# Altium footprint library UVM AERO BSPD2.PcbLib: 51 footprints (part 2 of 4)
Each footprint in its own frame and in the unit in brackets; x right, y up, seen from the top. Pads: shape width x height; smd on the part's side, far side on the other; paste and mask are expansions set on the pad; w line width, h text height; cw(c..) or ccw(c..) is an arc to the next point about the centre after c.
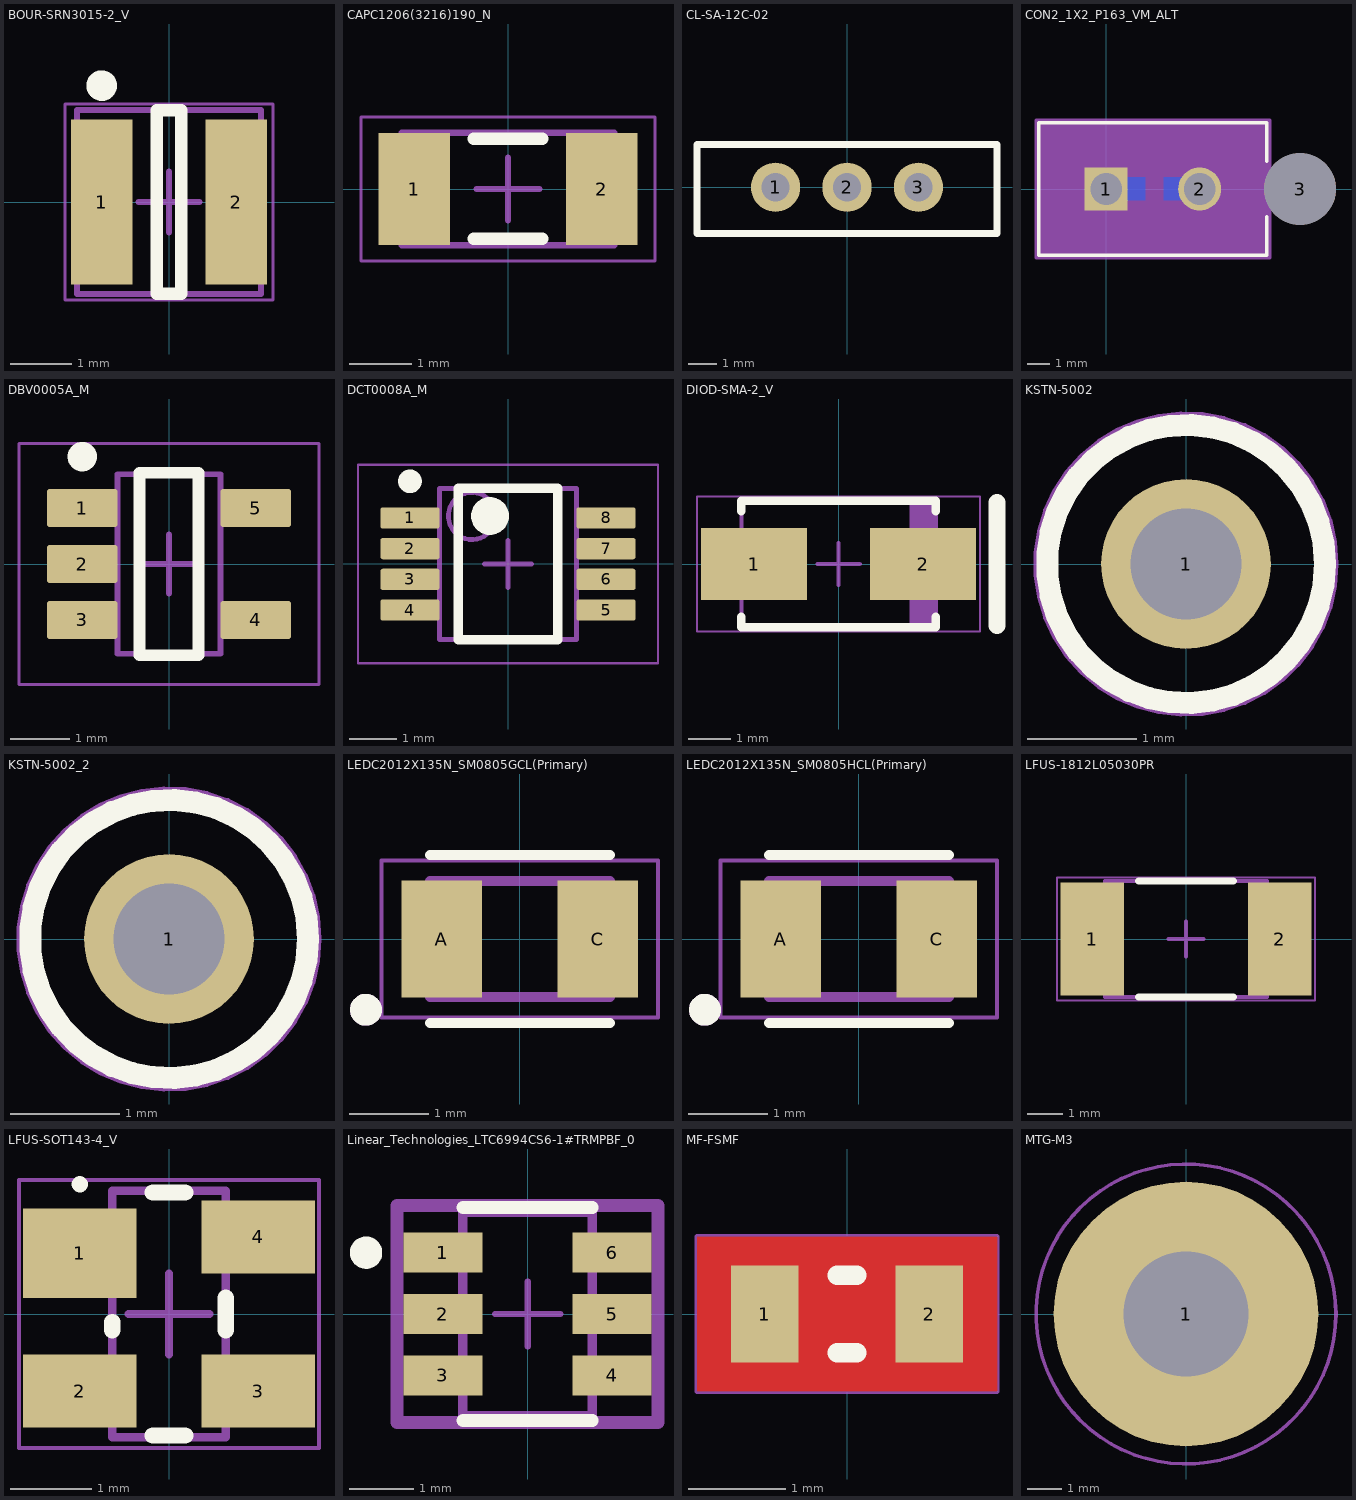
[diagram p1: the footprints below, top view; thin cyan lines are the x and y axes]

## BOUR-SRN3015-2_V [mm] "SMD, 2-Leads, Body 3x3mm, Height 1.5mm"
height 1.5
pads (2):
  rect 1x2.7 smd: 1(-1.1,0) 2(1.1,0)
Top Overlay:
  circle w0.25: c-1.1,1.9 r0.125
  lines w0.2: -0.2,-1.5 0.2,-1.5 0.2,1.5 -0.2,1.5 -0.2,-1.5
Mechanical 13:
  lines w0.1: -1.5,-1.5 1.5,-1.5 1.5,1.5 -1.5,1.5 -1.5,-1.5
Mechanical 15:
  lines w0.05: -1.7,-1.6 1.7,-1.6 1.7,1.6 -1.7,1.6 -1.7,-1.6
  lines w0.1: -0.5,0 0.5,0 ; 0,-0.5 0,0.5
3D body "srn3015.stp": height 1.5, standoff 0, extent -1.5,-1.5 1.5,1.5

## CAPC1206(3216)190_N [mm] "Chip Capacitor, Body 3.2x1.6mm, Height 1.9mm, IPC Medium Density"
height 1.9
pads (2):
  rect 1.15x1.8 smd: 1(-1.5,0) 2(1.5,0)
Top Overlay:
  lines w0.2: -0.55,-0.8 0.55,-0.8 ; -0.55,0.8 0.55,0.8
Mechanical 13:
  lines w0.1: -1.7,-0.9 1.7,-0.9 1.7,0.9 -1.7,0.9 -1.7,-0.9
Mechanical 15:
  lines w0.05: -2.35,-1.15 2.35,-1.15 2.35,1.15 -2.35,1.15 -2.35,-1.15
  lines w0.1: -0.5,0 0.5,0 ; 0,-0.5 0,0.5
3D body: height 1.9, standoff 0, extent 1.2,-0.9 1.7,0.9
3D body: height 1.9, standoff 0, extent -1.2,-0.9 1.2,0.9
3D body: height 1.9, standoff 0, extent -1.7,-0.9 -1.2,0.9

## CL-SA-12C-02 [mm]
pads (3):
  round 1.75 hole 1 paste-2.54: 1(-2.54,0) 2(0,0) 3(2.54,0)
Top Overlay:
  lines w0.254: -5.334,-1.651 5.334,-1.651 5.334,1.524 -5.334,1.524 -5.334,-1.651
3D body "CL-SA-12C-02.stp": height 6.4, standoff -5, extent -5,-1.27 5,1.27

## CON2_1X2_P163_VM_ALT [mil]
pads (3):
  rect 75x75 hole 55: 1(0,0)
  round 75 hole 55: 2(162.99,0)
  round 125 hole 125 unplated: 3(338,0)
Bottom Layer:
  region: 68.63,21 33.63,21 33.63,-20 68.63,-20
  region: 142.63,21 99.63,21 99.63,-20 142.63,-20
Top Overlay:
  lines w6: 280,-48.49 280,-115 -117,-115 -117,115 280,115 280,48.49
Bottom Solder:
  region: 162.99,25 33.63,25 33.63,-24 162.99,-24
Top Courtyard:
  region: 285,120 -122,120 -122,-120 285,-120
Top Component Outline:
  lines w6: -122,-120 -122,120 285,120 285,-120 -122,-120
3D body "c-1-770872-0-h-3d.stp": height 566.5, standoff -168, extent -159.49,-139.99 379.51,110.01
3D body: height 10, standoff 0, extent 0,0 10,10

## DBV0005A_M [mm] "SOT23, 5-Leads, Body 3.05x1.75mm, Pitch 0.95mm, IPC Low Density"
height 1.45
pads (5):
  rrect15% 1.2x0.65 smd: 1(-1.475,0.95) 2(-1.475,0) 3(-1.475,-0.95) 4(1.475,-0.95) 5(1.475,0.95)
Top Overlay:
  circle w0.25: c-1.475,1.825 r0.125
  lines w0.2: -0.5,-1.55 -0.5,1.55 0.5,1.55 0.5,-1.55 -0.5,-1.55
Mechanical 1:
  text ".Designator" at -0.635,-0.127 h0.4
Mechanical 13:
  lines w0.1: -0.875,-1.525 -0.875,1.525 0.875,1.525 0.875,-1.525 -0.875,-1.525
Mechanical 15:
  lines w0.05: -2.55,-2.05 -2.55,2.05 2.55,2.05 2.55,-2.05 -2.55,-2.05
  lines w0.1: -0.5,0 0.5,0 ; 0,-0.5 0,0.5
3D body "DBV0005AaksMF05A.stp": height 1.08, standoff -0.01, extent -1.422,-1.461 1.422,1.46

## DCT0008A_M [mm] "SOP, 8-Leads, Body 2.9x3.2mm, Pitch 0.65mm, IPC Low Density"
height 1.3
pads (8):
  rrect22% 1.25x0.45 smd: 1(-2.075,0.975) 2(-2.075,0.325) 3(-2.075,-0.325) 4(-2.075,-0.975) 5(2.075,-0.975) 6(2.075,-0.325) 7(2.075,0.325) 8(2.075,0.975)
Top Overlay:
  circle w0.25: c-2.075,1.75 r0.125
  circle w0.4: c-0.381,1.016 r0.2
  lines w0.2: -1.05,-1.6 1.05,-1.6 1.05,1.6 -1.05,1.6 -1.05,-1.6
Mechanical 1:
  text ".Designator" at -1.143,-0.254 h0.6
Mechanical 13:
  circle w0.1: c-0.762,1.016 r0.5
  lines w0.1: -1.45,-1.6 -1.45,1.6 1.45,1.6 1.45,-1.6 -1.45,-1.6
Mechanical 15:
  lines w0.05: -3.175,-2.1 -3.175,2.1 3.175,2.1 3.175,-2.1 -3.175,-2.1
  lines w0.1: -0.5,0 0.5,0 ; 0,-0.5 0,0.5
3D body "DCT0008A.stp": height 1.3, standoff 0, extent -2.011,-1.475 2.011,1.475

## DIOD-SMA-2_V [mm] "Molded Diode, 2-Leads, Body 4.6x2.92mm"
height 2.4
pads (2):
  rect 2.5x1.7 smd: 1(-2,0) 2(2,0)
Top Overlay:
  lines w0.2: -2.3,-1.25 -2.3,-1.5 2.3,-1.5 2.3,-1.25 ; -2.3,1.25 -2.3,1.5 2.3,1.5 2.3,1.25
  lines w0.4: 3.75,-1.46 3.75,1.46
Mechanical 13:
  rectangle: 1.681,-1.46 2.3,1.46
  lines w0.1: -2.3,-1.46 -2.3,1.46 2.3,1.46 2.3,-1.46 -2.3,-1.46
Mechanical 15:
  lines w0.05: -3.35,-1.6 3.35,-1.6 3.35,1.6 -3.35,1.6 -3.35,-1.6
  lines w0.1: -0.5,0 0.5,0 ; 0,-0.5 0,0.5
3D body "DIOM4326X24L.step": height 2.4, standoff 0, extent -2.52,-1.46 2.52,1.46

## KSTN-5002 [mm] "Test Point, Through Hole, Dia 2.54mm"
height 4.57
pads (1):
  round 1.55 hole 1.016: 1(0,0)
Top Overlay:
  circle w0.2: c0,0 r1.27
Mechanical 13:
  circle w0.1: c0,0 r1.27
Mechanical 15:
  circle w0.05: c0,0 r1.37
  lines w0.1: -0.5,0 0.5,0 ; 0,-0.5 0,0.5
3D body "Keystone_5002.stp": height 4.62, standoff -3, extent -1.254,-1.247 1.246,1.253

## KSTN-5002_2 [mm]
pads (1):
  round 1.55 hole 1.016: 1(0,0)
Top Overlay:
  circle w0.2: c0,0 r1.27
Mechanical 13:
  circle w0.1: c0,0 r1.27
Mechanical 15:
  circle w0.05: c0,0 r1.37
  lines w0.1: -0.5,0 0.5,0 ; 0,-0.5 0,0.5
3D body "Keystone_5002.stp": height 4.62, standoff -3, extent -1.254,-1.247 1.246,1.253

## LEDC2012X135N_SM0805GCL(Primary) [mm]
pads (2):
  rect 1.01x1.47 smd: A(-0.98,0) C(0.98,0)
Top Overlay:
  circle w0.2: c-1.932,-0.889 r0.1
  lines w0.127: -1.13,-1.055 1.13,-1.055 ; -1.13,1.055 1.13,1.055
Top 3D Body:
  circle w0.2: c-1.932,-0.889 r0.1
  circle w0.2: c-1.932,-0.889 r0.1
  lines w0.127: -1.13,-0.73 1.13,-0.73 ; -1.13,-0.73 1.13,-0.73 ; -1.13,-0.73 -1.13,0.73 ; -1.13,-0.73 -1.13,0.73 ; -1.13,0.73 1.13,0.73 ; -1.13,0.73 1.13,0.73 ; 1.13,-0.73 1.13,0.73 ; 1.13,-0.73 1.13,0.73
Bottom Component Outline:
  lines w0.05: -1.735,-0.985 -1.735,0.985 1.735,0.985 1.735,-0.985 -1.735,-0.985
3D body "SM0805GCL.STEP": height 1.12, standoff 0.03, extent -1.003,-0.622 1.003,0.622

## LEDC2012X135N_SM0805HCL(Primary) [mm]
pads (2):
  rect 1.01x1.47 smd: A(-0.98,0) C(0.98,0)
Top Overlay:
  circle w0.2: c-1.932,-0.889 r0.1
  lines w0.127: -1.13,-1.055 1.13,-1.055 ; -1.13,1.055 1.13,1.055
Top 3D Body:
  circle w0.2: c-1.932,-0.889 r0.1
  circle w0.2: c-1.932,-0.889 r0.1
  lines w0.127: -1.13,-0.73 1.13,-0.73 ; -1.13,-0.73 -1.13,0.73 ; -1.13,-0.73 -1.13,0.73 ; -1.13,-0.73 1.13,-0.73 ; -1.13,0.73 1.13,0.73 ; -1.13,0.73 1.13,0.73 ; 1.13,-0.73 1.13,0.73 ; 1.13,-0.73 1.13,0.73
Bottom Component Outline:
  lines w0.05: -1.735,-0.985 1.735,-0.985 1.735,0.985 -1.735,0.985 -1.735,-0.985
3D body "SM0805XXC.STEP": height 1.12, standoff 0.03, extent -1.003,-0.622 1.003,0.622

## LFUS-1812L05030PR [mm] "SMD, 2-Leads, Body 4.55x3.24mm"
height 1
pads (2):
  rect 1.78x3.15 smd: 1(-2.615,0) 2(2.615,0)
Top Overlay:
  lines w0.2: -1.325,-1.62 1.325,-1.62 ; -1.325,1.62 1.325,1.62
Mechanical 13:
  lines w0.1: -2.275,-1.62 2.275,-1.62 2.275,1.62 -2.275,1.62 -2.275,-1.62
Mechanical 15:
  lines w0.05: -3.605,-1.72 3.605,-1.72 3.605,1.72 -3.605,1.72 -3.605,-1.72
  lines w0.1: -0.5,0 0.5,0 ; 0,-0.5 0,0.5
3D body "1812L110-16DR--3DModel-STEP-56544.STEP": height 1.25, standoff 0, extent -2.275,-1.62 2.275,1.62

## LFUS-SOT143-4_V [mm] "SOT143, 4-Leads, Body 3.04x1.4mm, Pitch 1.90mm"
height 1.22
pads (4):
  rect 1.4x1.1 smd: 1(-1.1,0.75)
  rect 1.4x0.9 smd: 2(-1.1,-0.95) 3(1.1,-0.95) 4(1.1,0.95)
Top Overlay:
  circle w0.1: c-1.1,1.6 r0.05
  lines w0.2: -0.7,-0.2 -0.7,-0.1 ; -0.2,-1.5 0.2,-1.5 ; -0.2,1.5 0.2,1.5 ; 0.7,-0.2 0.7,0.2
Mechanical 13:
  lines w0.1: -0.7,-1.52 0.7,-1.52 0.7,1.52 -0.7,1.52 -0.7,-1.52
Mechanical 15:
  lines w0.05: -1.85,-1.65 1.85,-1.65 1.85,1.65 -1.85,1.65 -1.85,-1.65
  lines w0.1: -0.5,0 0.5,0 ; 0,-0.5 0,0.5
3D body: height 1.22, standoff 0.05, extent -0.7,-1.52 0.7,1.52

## Linear_Technologies_LTC6994CS6-1#TRMPBF_0 [mm]
pads (6):
  rect 1.22x0.62 smd paste+0 mask+0: 1(-1.31,0.95) 2(-1.31,0) 3(-1.31,-0.95) 4(1.31,-0.95) 5(1.31,0) 6(1.31,0.95)
Top Overlay:
  circle w0.25: c-2.5,0.95 r0.125
  lines w0.2: -1.002,-1.647 1.002,-1.647 ; -1.002,1.647 1.002,1.647
Top Courtyard:
  lines w0.2: -2.02,-1.677 -2.02,1.677 2.02,1.677 2.02,-1.677 -2.02,-1.677
Top Component Outline:
  lines w0.15: -1.002,-1.577 1.002,-1.577 1.002,1.577 -1.002,1.577 -1.002,-1.577
Top 3D Body:
  text ".Designator" at 0,0 h1
Mechanical 15:
  lines w0.1: -0.503,0 0.503,0 ; 0,-0.503 0,0.503
  lines w0.2: -2.02,-1.677 -2.02,1.677 2.02,1.677 2.02,-1.677 -2.02,-1.677
3D body "IC_Linear_Technologies_LTC6994CS6-1#TRMPBF_eec.STEP": height 0.96, standoff -0.04, extent -1.412,-1.443 1.412,1.457

## MF-FSMF [mm] "MF-FSMF Series - PTC Resettable Fuse"
height 0.65
pads (2):
  rect 0.7x1 smd: 1(-0.85,0) 2(0.85,0)
Top Layer:
  pour cut-out: -1.55,0.8 1.55,0.8 1.55,-0.8 -1.55,-0.8
Bottom Layer:
  pour cut-out: -1.55,0.8 1.55,0.8 1.55,-0.8 -1.55,-0.8
Top Overlay:
  lines w0.2: -0.1,-0.4 0.1,-0.4 ; -0.1,0.4 0.1,0.4
Top Courtyard:
  lines w0.05: -1.55,-0.8 -1.55,0.8 1.55,0.8 1.55,-0.8 -1.55,-0.8
  lines w0.1: -0.5,0 0.5,0 ; 0,-0.5 0,0.5
Top Assembly:
  lines w0.1: -0.925,-0.525 0.925,-0.525 0.925,0.525 -0.925,0.525 -0.925,-0.525
3D body "mf-fsmf010x.stp": height 0.48, standoff 0, extent -0.825,-0.425 0.825,0.425

## MTG-M3 [mil]
height 1
pads (1):
  round 300 hole 142: 1(0,0)
Mechanical 3:
  text "LOCATION: TOOL-TEST-MTG.PCBLIB" at -15,160 h1
  text "HISTORY: SS 091913, CREATED PER SPACEX BASIC F/P AND SYMBOL CREATION STANDARDS." at -36,158 h1
Mechanical 4:
  circle w4: c0,0 r170
Top Courtyard:
  circle w4: c0,0 r170
Mechanical 6:
  lines w4: -100,0 0,0 ; 0,-100 0,0 ; 0,100 0,0 ; 100,0 0,0
Mechanical 7:
  circle w4: c0,0 r82
  text ".Designator" at -44,-9 h40